# EAGLE library part IC-AVR-TINY2313 (library mylib)
MICROCONTROLLER 2 Kbytes FLASH 128 bytes SRAM 128 bytes EEPROM UART
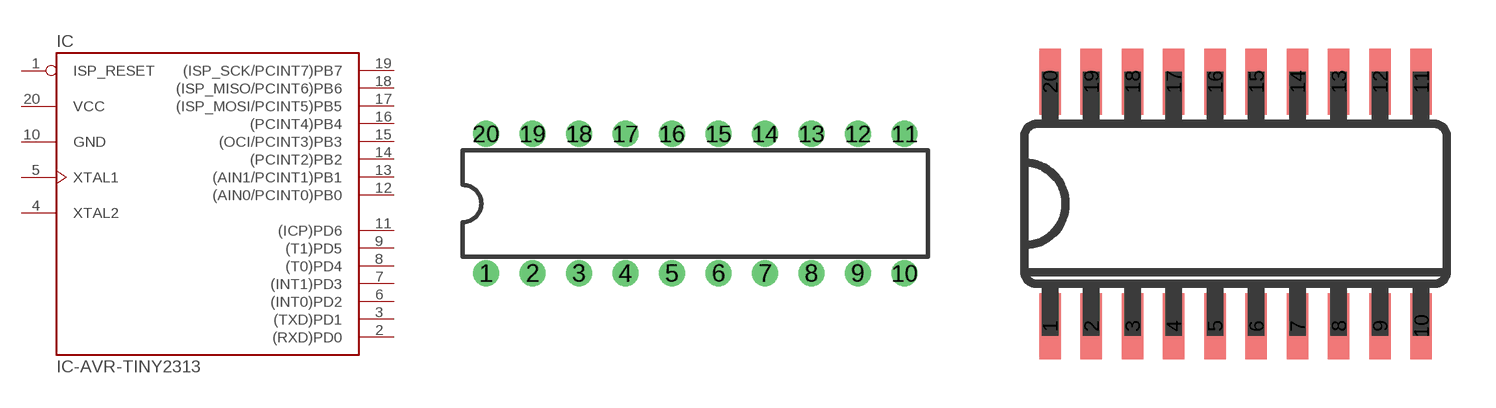
[diagram p57: symbol with the pads of IC-SOCKET-DIL-20-300MIL; footprints IC-SOCKET-DIL-20-300MIL, IC-20-1.27-300MIL]

Designator prefix IC

## IC-AVR-TINY2313-DIP  [IC-SOCKET-DIL-20-300MIL]
1  ISP_RESET
2  (RXD)PD0
3  (TXD)PD1
4  XTAL2
5  XTAL1
6  (INT0)PD2
7  (INT1)PD3
8  (T0)PD4
9  (T1)PD5
10  GND  pwr
11  (ICP)PD6
12  (AIN0/PCINT0)PB0
13  (AIN1/PCINT1)PB1
14  (PCINT2)PB2
15  (OCI/PCINT3)PB3
16  (PCINT4)PB4
17  (ISP_MOSI/PCINT5)PB5
18  (ISP_MISO/PCINT6)PB6
19  (ISP_SCK/PCINT7)PB7
20  VCC  pwr

## IC-AVR-TINY2313-SO  [IC-20-1.27-300MIL]
Pads as for IC-SOCKET-DIL-20-300MIL

## Footprint IC-SOCKET-DIL-20-300MIL (pad centres in mm)
drill 0.889: 1 -11.43,-3.81; 2 -8.89,-3.81; 3 -6.35,-3.81; 4 -3.81,-3.81; 5 -1.27,-3.81; 6 1.27,-3.81; 7 3.81,-3.81; 8 6.35,-3.81; 9 8.89,-3.81; 10 11.43,-3.81; 11 11.43,3.81; 12 8.89,3.81; 13 6.35,3.81; 14 3.81,3.81; 15 1.27,3.81; 16 -1.27,3.81; 17 -3.81,3.81; 18 -6.35,3.81; 19 -8.89,3.81; 20 -11.43,3.81

## Footprint IC-20-1.27-300MIL (pad centres in mm)
Small Outline Package
smd 0.66 x 2.032: 1 -6.35,-3.759; 2 -5.08,-3.759; 3 -3.81,-3.759; 4 -2.54,-3.759; 5 -1.27,-3.759; 6 0,-3.759; 7 1.27,-3.759; 8 2.54,-3.759; 9 3.81,-3.759; 10 5.08,-3.759; 11 5.08,3.759; 12 3.81,3.759; 13 2.54,3.759; 14 1.27,3.759; 15 0,3.759; 16 -1.27,3.759; 17 -2.54,3.759; 18 -3.81,3.759; 19 -5.08,3.759; 20 -6.35,3.759